# Altium schematic symbol library SCH - DRIVER - LED - TI LM27952SD.SchLib: 1 symbol
Pins are listed as number, name and electrical type; pins without a type are passive.

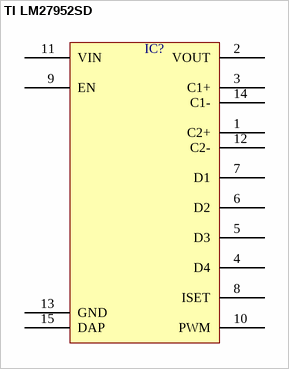
[diagram p0: symbol TI LM27952SD]

## TI LM27952SD
designator IC?  (value not drawn)
pins: 1 C2+, 2 VOUT, 3 C1+, 4 D4, 5 D3, 6 D2, 7 D1, 8 ISET, 9 EN, 10 PWM, 11 VIN, 12 C2-, 13 GND, 14 C1-, 15 DAP